# Altium schematic symbol library isd.SCHLIB: 2 symbols
Pins are listed as number, name and electrical type; pins without a type are passive.

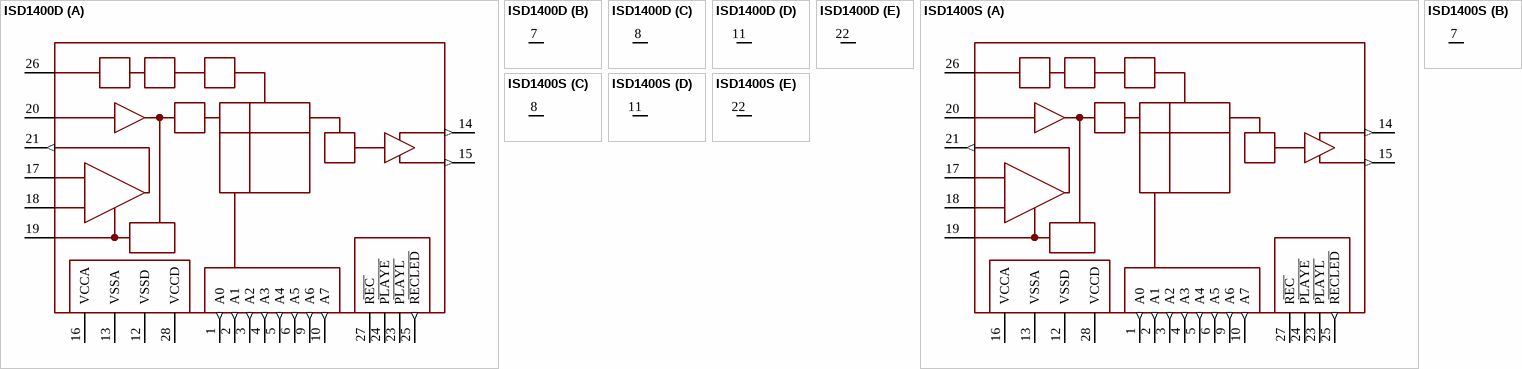
[diagram p0: symbols ISD1400D to ISD1400S]

## ISD1400D
designator IC?, comment VOICE RECORDER  (value not drawn)
OC_FARNELL: unknown; OC_NEWARK: unknown
footprint DIL28-6
part A pins: 1 A0 (out), 2 A1 (out), 3 A2 (out), 4 A3 (out), 5 A4 (out), 6 A5 (out), 9 A6 (out), 10 A7 (out), 12 VSSD (power), 13 VSSA (power), 14 SP+ (out), 15 SP- (out), 16 VCCA (power), 17 MIC, 18 MIC_REF, 19 AGC, 20 ANA_IN, 21 ANA_OUT (out), 23 PLAYL, 24 PLAYE, 25 RECLED (out), 26 XCLK, 27 REC, 28 VCCD (power)
part B pins: 7 NC
part C pins: 8 NC
part D pins: 11 NC
part E pins: 22 NC

## ISD1400S
designator IC?, comment VOICE PLAYBACK DEVICE  (value not drawn)
OC_FARNELL: unknown; OC_NEWARK: unknown
footprint SO28W
part A pins: 1 A0 (out), 2 A1 (out), 3 A2 (out), 4 A3 (out), 5 A4 (out), 6 A5 (out), 9 A6 (out), 10 A7 (out), 12 VSSD (power), 13 VSSA (power), 14 SP+ (out), 15 SP- (out), 16 VCCA (power), 17 MIC, 18 MIC_REF, 19 AGC, 20 ANA_IN, 21 ANA_OUT (out), 23 PLAYL, 24 PLAYE, 25 RECLED (out), 26 XCLK, 27 REC, 28 VCCD (power)
part B pins: 7 NC
part C pins: 8 NC
part D pins: 11 NC
part E pins: 22 NC